# EAGLE library part MCP73844-840I/MS (library mcp73844)
IC, Dual series cells charge controller,8.4V,MSOP-8
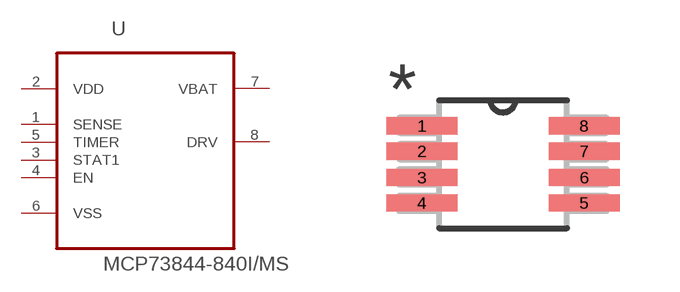
[diagram p0: symbol with the pads of SOP65P490X110-8N; footprint SOP65P490X110-8N]

Designator prefix U

## MCP73844-840I/MS (MPN: MCP73844-840I/MS; OC_FARNELL: 1852165; OC_NEWARK: 68H9444; PACKAGE: MSOP-8; SUPPLIER: Microchip)  [SOP65P490X110-8N]
1  SENSE  in
2  VDD  pwr
3  STAT1  in
4  EN  in
5  TIMER  in
6  VSS  pwr
7  VBAT  out
8  DRV  out

## Footprint SOP65P490X110-8N (pad centres in mm)
smd 1.778 x 0.432: 1 -2.032,0.965; 2 -2.032,0.33; 3 -2.032,-0.33; 4 -2.032,-0.965; 5 2.032,-0.965; 6 2.032,-0.33; 7 2.032,0.33; 8 2.032,0.965